# EAGLE library part SWITCH_DP (library _mtvl.switch)
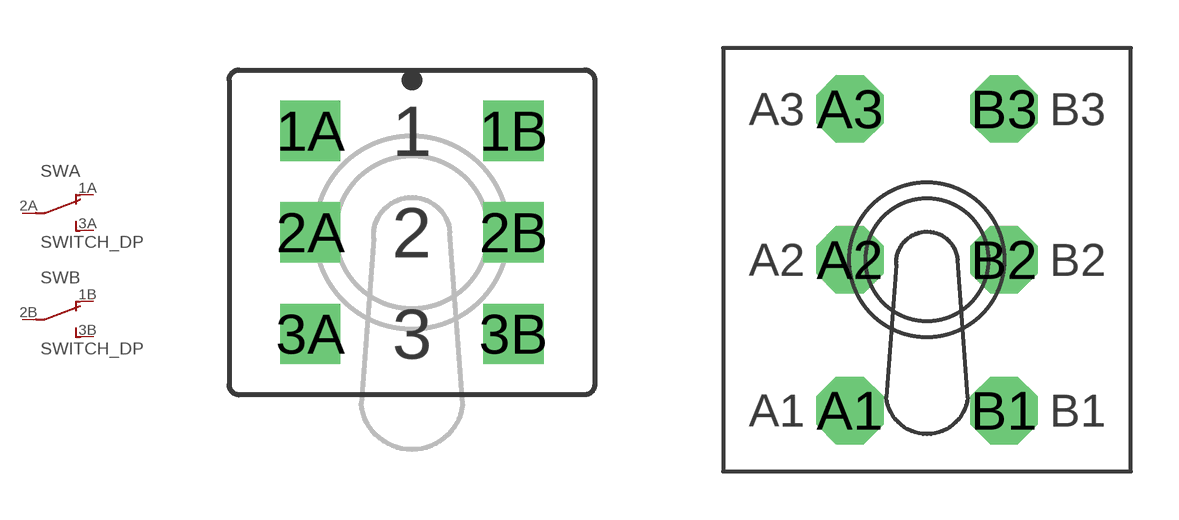
[diagram p1: symbol with the pads of 2MD1T1B1M2; footprints 2MD1T1B1M2, MTS-203]

Designator prefix SW; gates A=SP B=SP

## SWITCH_DP  [2MD1T1B1M2]
1A  A:1  pas
1B  B:1  pas
2A  A:2  pas
2B  B:2  pas
3A  A:3  pas
3B  B:3  pas

## SWITCH_DP-MTS-203-VERT  [MTS-203]
A1  A:1  pas
A2  A:2  pas
A3  A:3  pas
B1  B:1  pas
B2  B:2  pas
B3  B:3  pas

## Footprint 2MD1T1B1M2 (pad centres in mm)
drill 1 square: 1A -2.54,2.54; 1B 2.54,2.54; 2A -2.54,0; 2B 2.54,0; 3A -2.54,-2.54; 3B 2.54,-2.54

## Footprint MTS-203 (pad centres in mm)
MTS-2XX VERTICAL
drill 1.4 octagon: A1 -2.4,-4.7; A2 -2.4,0; A3 -2.4,4.7; B1 2.4,-4.7; B2 2.4,0; B3 2.4,4.7